# Altium footprint library RJ Port.PcbLib: 6 footprints
Each footprint in its own frame and in the unit in brackets; x right, y up, seen from the top. Pads: shape width x height; smd on the part's side, far side on the other; paste and mask are expansions set on the pad; w line width, h text height; cw(c..) or ccw(c..) is an arc to the next point about the centre after c.
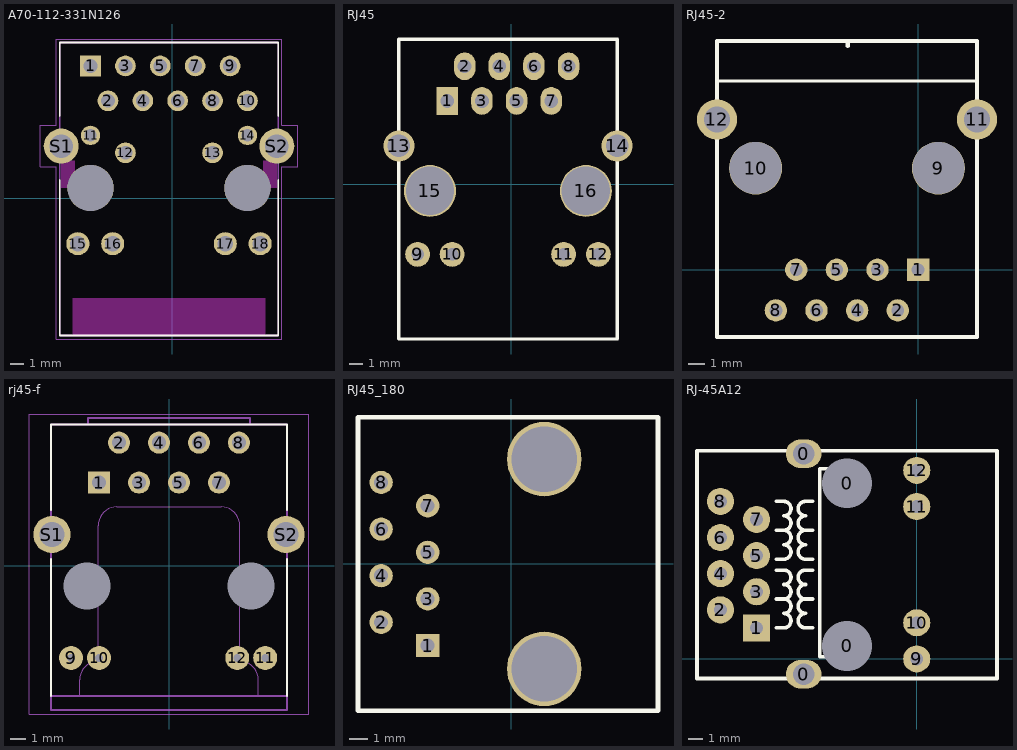
[diagram p0: the footprints below, top view; thin cyan lines are the x and y axes]

## A70-112-331N126 [mm]
pads (22):
  rect 1.508x1.508 hole 1: 1(-5.969,9.652)
  round 1.508 hole 1: 2(-4.699,7.112) 3(-3.429,9.652) 4(-2.159,7.112) 5(-0.889,9.652) 6(0.381,7.112) 7(1.651,9.652) 8(2.921,7.112) 9(4.191,9.652) 10(5.461,7.112) 12(-3.429,3.322) 13(2.921,3.322)
  round 1.408 hole 0.9: 11(-5.969,4.592) 14(5.461,4.592)
  round 1.68 hole 1.12: 15(-6.894,-3.298) 16(-4.354,-3.298) 17(3.846,-3.298) 18(6.386,-3.298)
  round 2.55 hole 1.7: S1(-8.104,3.812) S2(7.596,3.812)
  round 3.35 hole 3.35 unplated: ""(-5.969,0.762) ""(5.461,0.762)
Top Overlay:
  lines w0.127: -8.204,1.362 -8.204,-9.988 7.696,-9.988 7.696,1.362 ; -8.204,6.012 -8.204,11.362 7.696,11.362 7.696,6.012
Keep-Out Layer:
  region: 6.751,-9.988 -7.259,-9.988 -7.259,-7.288 6.751,-7.288
  region: 7.596,0.762 6.621,0.762 6.621,2.762 7.596,2.762
  region: -7.129,0.762 -8.104,0.762 -8.104,2.762 -7.129,2.762
Mechanical 13:
  lines w0.127: -8.204,-9.988 7.696,-9.988 7.696,11.362 -8.204,11.362 -8.204,-9.988
Mechanical 15:
  lines w0.05: -9.634,2.292 -9.634,5.332 -8.454,5.332 -8.454,11.612 7.946,11.612 7.946,5.332 9.126,5.332 9.126,2.292 7.946,2.292 7.946,-10.238 -8.454,-10.238 -8.454,2.292 -9.634,2.292
3D body "A70-112-331N126--3DModel-STEP-56544.STEP": height 13.65, standoff -3.3, extent -8.354,-10.063 7.846,11.437

## RJ45 [mil]
pads (16):
  rect 62x80 hole 40: 1(-185,240)
  oval 62x80 hole 40: 2(-135,340) 3(-85,240) 4(-35,340) 5(15,240) 6(65,340) 7(115,240) 8(165,340)
  round 72 hole 36: 9(-270.63,-202.91) 10(-171,-202.91) 11(150.87,-202.91) 12(251,-202.91)
  round 90 hole 65: 13(-324.76,110.08) 14(305.16,110.08)
  round 150 hole 140: 15(-235,-20) 16(215,-20)
Top Overlay:
  lines w10: -325,418.74 -324.76,418.5 ; 305,418.74 305.16,418.58 ; -324.76,418.5 -324.76,110.08 -324.76,-447.17 -325,-447.4 305,-447.4 305.16,-447.24 305.16,110.08 305.16,418.58 ; -324.76,418.5 -324.69,418.58 305.16,418.58
Multi-Layer:
  circle w5: c-235,-20 r70.8
  circle w5: c215,-20 r70.8

## RJ45-2 [mil] "ï¿½ï¿½ï¿½ß½Ó¿ï¿½"
pads (12):
  rect 55x55 hole 31.5: 1(0,0)
  round 55 hole 31.5: 2(-50,-100) 3(-100,0) 4(-150,-100) 5(-200,0) 6(-250,-100) 7(-300,0) 8(-350,-100)
  round 130 hole 127.95 unplated: 9(50,250) 10(-400,250)
  round 98.42 hole 62.99: 11(145,370) 12(-495,370)
Top Overlay:
  lines w8: -488.19,464.57 141.73,464.57
  lines w10: -495,-165.35 144.65,-165.35 145,-165 145,370 145,562.99 -495,562.99 -495,370 -495,-165 ; -173.23,551.18 -173.23,559.06
3D body "Mod-Jack-K122449007-Stig-W.STEP": height 127.85, standoff -555.12, extent -490,-172.17 139.92,556.17

## rj45-f [mm]
pads (16):
  rect 1.398x1.398 hole 0.89: 1(-4.445,5.3)
  round 1.398 hole 0.89: 2(-3.175,7.84) 3(-1.905,5.3) 4(-0.635,7.84) 5(0.635,5.3) 6(1.905,7.84) 7(3.175,5.3) 8(4.445,7.84)
  round 1.524 hole 0.5: 9(-6.223,-5.842) 10(-4.445,-5.842) 11(6.117,-5.842) 12(4.339,-5.842)
  round 0 hole 3: 15(-5.207,-1.27) 16(5.207,-1.27)
  round 2.37 hole 1.58: S1(-7.44,2) S2(7.44,2)
Top Overlay:
  lines w0.127: -7.5,-8.25 -7.5,0.45 ; -7.5,3.55 -7.5,8.99 7.5,8.99 7.5,3.55 ; 7.5,-8.25 7.5,0.45
Mechanical 1:
  lines w0: -5.68,-8.25 -5.68,-7.23 cw(c-4.5,-7.23) -4.5,-6.05 -4.5,2.57 cw(c-3.32,2.57) -3.32,3.75 3.32,3.75 cw(c3.32,2.57) 4.5,2.57 4.5,-6.05 cw(c4.5,-7.23) 5.68,-7.23 5.68,-8.25
Mechanical 13:
  lines w0.127: -7.5,-8.25 7.5,-8.25 ; -7.5,-8.25 -7.5,8.99 -5.15,8.99 ; -7.5,-8.25 -7.5,-9.16 7.5,-9.16 7.5,-8.25 ; -5.15,8.99 -5.15,9.41 5.15,9.41 5.15,8.99 ; -5.15,8.99 5.15,8.99 ; 5.15,8.99 7.5,8.99 7.5,-8.25
Mechanical 15:
  lines w0.05: -8.5,9.66 -8.88,9.66 ; -8.88,9.66 -8.88,-9.41 8.88,-9.41 8.88,9.66 -8.88,9.66
3D body "406732-2.stp": height 9.49, standoff -3.61, extent -7.801,-9.285 7.747,9.285

## RJ45_180 [mil] "ï¿½ï¿½ï¿½ß½Ó¿ï¿½"
height 53.15
pads (10):
  rect 50x50 hole 30: 1(-179.13,-175)
  round 50 hole 30: 2(-279.13,-125) 3(-179.13,-75) 4(-279.13,-25) 5(-179.13,25) 6(-279.13,75) 7(-179.13,125) 8(-279.13,175)
  round 160 hole 140: ""(70.87,-225) ""(70.87,225)
Top Overlay:
  lines w10: -328.74,-314.96 314.96,-314.96 314.96,314.96 -328.74,314.96 -328.74,-314.96
3D body "RJ-45, 8P8C, MOD JACK, TOP ENTRY, CAT 5E, RIA AJT26A8813.STEP": height 641.73, standoff -129.92, extent -313.88,-296.61 308.16,313.62

## RJ-45A12 [mil] "ï¿½ï¿½ï¿½ß½Ó¿ï¿½"
pads (16):
  oval 98.43x78.74 hole 59.06: 0(-312.99,-42.13) 0(-312.99,567.32)
  round 130 hole 137.8: 0(-192.91,35.83) 0(-192.91,485.83)
  rect 75x75 hole 35.43: 1(-442.91,85.83)
  round 75 hole 35.43: 2(-542.91,135.83) 3(-442.91,185.83) 4(-542.91,235.83) 5(-442.91,285.83) 6(-542.91,335.83) 7(-442.91,385.83) 8(-542.91,435.83) 9(0,0) 10(0,100) 11(0,421.65) 12(0,521.65)
Top Overlay:
  lines w10: -387.91,85.83 -367.91,85.83 ccw(c-367.91,105.83) -367.91,125.83 ccw(c-367.91,145.83) -367.91,165.83 ; -387.91,165.83 -367.91,165.83 ; -387.91,245.83 -367.91,245.83 cw(c-367.91,225.83) -367.91,205.83 cw(c-367.91,185.83) -367.91,165.83 ; -387.91,275.83 -367.91,275.83 ccw(c-367.91,295.83) -367.91,315.83 ccw(c-367.91,335.83) -367.91,355.83 ; -387.91,355.83 -367.91,355.83 ; -387.91,435.83 -367.91,435.83 cw(c-367.91,415.83) -367.91,395.83 cw(c-367.91,375.83) -367.91,355.83 ; -287.91,85.83 -307.91,85.83 cw(c-307.91,105.83) -307.91,125.83 cw(c-307.91,145.83) -307.91,165.83 ; -287.91,165.83 -307.91,165.83 ; -287.91,245.83 -307.91,245.83 ccw(c-307.91,225.83) -307.91,205.83 ccw(c-307.91,185.83) -307.91,165.83 ; -287.91,275.83 -307.91,275.83 cw(c-307.91,295.83) -307.91,315.83 cw(c-307.91,335.83) -307.91,355.83 ; -287.91,355.83 -307.91,355.83 ; -287.91,435.83 -307.91,435.83 ccw(c-307.91,415.83) -307.91,395.83 ccw(c-307.91,375.83) -307.91,355.83 ; -247.91,5.83 -267.91,5.83 -267.91,525.83 -247.91,525.83 ; -607.91,-54.17 222,-54.17 222,575.83 -607.91,575.83 -607.91,-54.17
Multi-Layer:
  text "J10" at -517.7,505.32 h25
3D body "HanRun-HR911105A.STEP": height 59.06, standoff -590.55, extent -605.26,-53 237.26,572.19